# Altium footprint library DISC.PcbLib: 1 footprints
Each footprint in its own frame and in the unit in brackets; x right, y up, seen from the top. Pads: shape width x height; smd on the part's side, far side on the other; paste and mask are expansions set on the pad; w line width, h text height; cw(c..) or ccw(c..) is an arc to the next point about the centre after c.
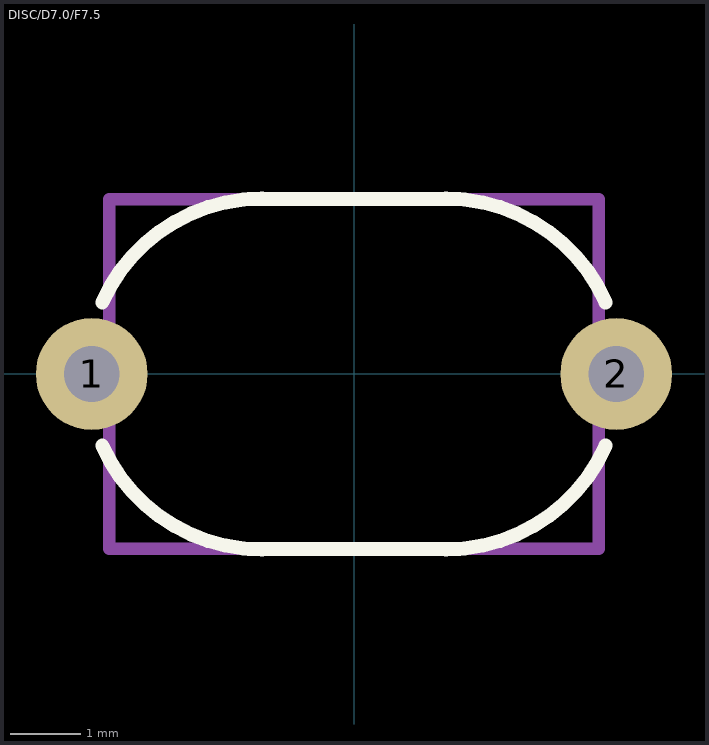
[diagram p0: the footprint, top view; thin cyan lines are the x and y axes]

## DISC/D7.0/F7.5 [mm]
pads (2):
  round 1.6 hole 0.8: 1(-3.75,0) 2(3.75,0)
Top Overlay:
  lines w0.2: -3.6,-1.025 ccw(c-1.316,-0.008) -1.316,-2.508 ; -3.6,1.025 cw(c-1.316,0.008) -1.316,2.508 ; -1.5,-2.5 1.5,-2.5 ; -1.5,2.5 1.5,2.5 ; 1.316,-2.508 ccw(c1.316,-0.008) 3.6,-1.025 ; 1.316,2.508 cw(c1.316,0.008) 3.6,1.025
Mechanical 1:
  lines w0.178: -3.5,-2.5 3.5,-2.5 3.5,2.5 -3.5,2.5 -3.5,-2.5
3D body "User Library-Panasonic ECK-A3D102KBP.step": height 8.63, standoff -4.57, extent -4.001,-1.198 4,1.198
3D body: height 10.49, standoff 3.01, extent -3.72,-2.5 3.75,2.5